# EAGLE library part LMC555 (library ORBiT-IC-TI)
TI LMC555 CMOS Timer The LMC555 device is a CMOS version of the industry standard 555 series general-purpose timers. In addition to the standard package (SOIC, VSSSOP, and PDIP) the LMC555 is also available in a chip-sized package (8-bump DSBGA) using TI’s DSBGA package technology. The LMC555 offers the same capability of generating accurate time delays and frequencies as the LM555 but with much lower power dissipation and supply current spikes. When operated as a one-shot, the time delay is precisely controlled by a single external resistor and capacitor. In the astable mode the oscillation frequency and duty cycle are accurately set by two external resistors and one capacitor. The use of TI’s LMCMOS process extends both the frequency range and the low supply capability. Features: Industry’s Fastest Astable Frequency of 3MHz Available in Industry’s Smallest 8-Bump DSBGA Package (1.43mm × 1.41mm) Less Than 1 mW Typical Power Dissipation at 5 V Supply 1.5 V Supply Operating Voltage Ensured Output Fully Compatible With TTL and CMOS Logic at 5 V Supply Tested to −10 mA, 50 mA Output Current Levels Reduced Supply Current Spikes During Output Transitions Extremely Low Reset, Trigger, and Threshold Currents Excellent Temperature Stability Pin-for-Pin Compatible With 555 Series of Timers Technical data: World’s smallest 555 timer with low power, high accuracy and a Fmax of 3MHz <http://www.ti.com/product/LMC555>
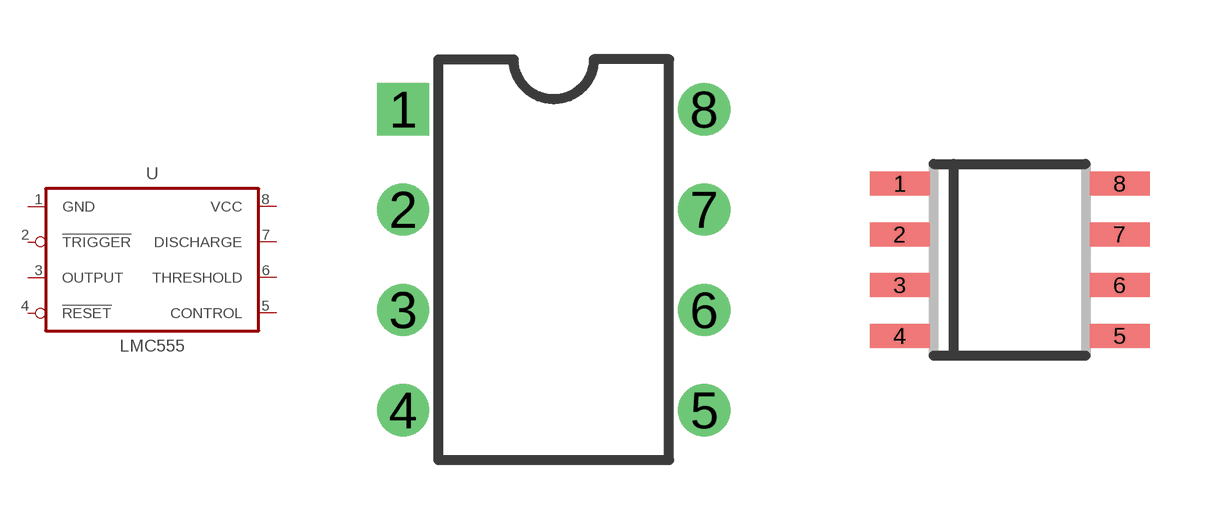
[diagram p6: symbol with the pads of DIP08; footprints DIP08, SOIC8-150]

Designator prefix U

## LMC555P (MF: Texas Instruments; MPN: LMC555CN; PN_DIGIKEY: LMC555CN/NOPB-ND; PN_MOUSER: 926-LMC555CN/NOPB)  [DIP08]
1  GND  pwr
2  !TRIGGER  in
3  OUTPUT  out
4  !RESET  in
5  CONTROL  in
6  THRESHOLD  in
7  DISCHARGE  in
8  VCC  pwr

## LMC555D (MF: Texas Instruments; MPN: LMC555CMX; PN_DIGIKEY: LMC555CMX/NOPBCT-ND; PN_MOUSER: 926-LMC555CMX/NOPB)  [SOIC8-150]
Pads as for DIP08

## Footprint DIP08 (pad centres in mm)
Dual Inline Package 8-pin JEDEC MS-001
drill 0.813 square: 1 -3.81,3.81
drill 0.813: 2 -3.81,1.27; 3 -3.81,-1.27; 4 -3.81,-3.81; 5 3.81,-3.81; 6 3.81,-1.27; 7 3.81,1.27; 8 3.81,3.81

## Footprint SOIC8-150 (pad centres in mm)
SOIC-8, 150 mils CASE 751BD-01
smd 1.5 x 0.6: 1 -2.75,1.905; 2 -2.75,0.635; 3 -2.75,-0.635; 4 -2.75,-1.905; 5 2.75,-1.905; 6 2.75,-0.635; 7 2.75,0.635; 8 2.75,1.905